# EAGLE library part EPAPERDISPLAY2.9 (library Bikota)
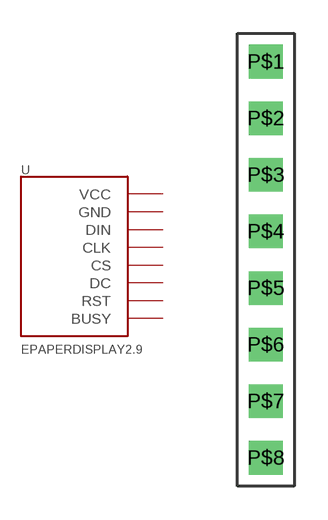
[diagram p3: symbol with the pads of EPAPERDISPLAY2.9; footprint EPAPERDISPLAY2.9]

Designator prefix -

## EPAPERDISPLAY2.9  [EPAPERDISPLAY2.9]
P$1  VCC  pwr
P$2  GND  pwr
P$3  DIN
P$4  CLK
P$5  CS
P$6  DC
P$7  RST
P$8  BUSY

## Footprint EPAPERDISPLAY2.9 (pad centres in mm)
drill 1 square: P$1 0,8.89; P$2 0,6.35; P$3 0,3.81; P$4 0,1.27; P$5 0,-1.27; P$6 0,-3.81; P$7 0,-6.35; P$8 0,-8.89